# Altium schematic symbol library RPA60-2412SFW-HC.SchLib: 1 symbol
Pins are listed as number, name and electrical type; pins without a type are passive.

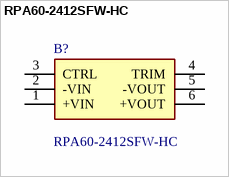
[diagram p0: symbol RPA60-2412SFW-HC]

## RPA60-2412SFW-HC
designator B?
Isolated DC/DC Converters 60W 9-36Vin 12Vout 5A; Manufacturer_Name: RECOM Power; Geometry.Height: 10.7mm; Manufacturer_Part_Number: RPA60-2412SFW-HC; Mouser Part Number: 919-RPA60-2412SFW-HC; Mouser Price/Stock: https://www.mouser.co.uk/ProductDetail/RECOM-Power/RPA60-2412SFW-HC?qs=FLBwGrBR9%252B1HOZNjXa%252B%252BWg%3D%3D; Arrow Part Number: *; Arrow Price/Stock: *; Datasheet Link: https://componentsearchengine.com/Datasheets/1/RPA60-2412SFW-HC.pdf
footprint RPA602412SFWHC
pins: 1 +VIN, 2 -VIN, 3 CTRL, 4 TRIM, 5 -VOUT, 6 +VOUT